# EAGLE library part 7498210220A (library 7498210220A)
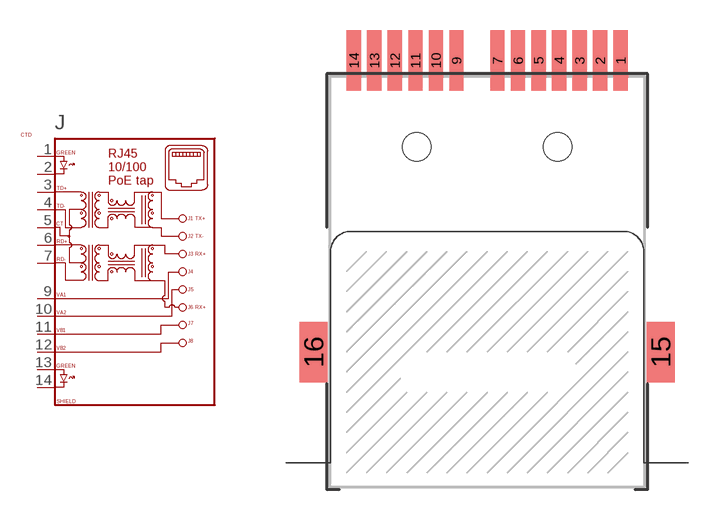
[diagram p0: symbol with the pads of SMD_7498210220A; footprint SMD_7498210220A]

Designator prefix J

## 7498210220A  [SMD_7498210220A]
1  1  pas
2  2  pas
3  3  pas
4  4  pas
5  5  pas
6  6  pas
7  7  pas
9  9  pas
10  10  pas
11  11  pas
12  12  pas
13  13  pas
14  14  pas
15  SHIELD  pas
16  SHIELD  pas

## Footprint SMD_7498210220A (pad centres in mm)
smd 0.71 x 3: 1 6.63,20; 2 5.61,20; 3 4.59,20; 4 3.57,20; 5 2.55,20; 6 1.53,20; 7 0.51,20; 9 -1.53,20; 10 -2.55,20; 11 -3.57,20; 12 -4.59,20; 13 -5.61,20; 14 -6.63,20
smd 1.4 x 3: 15 8.625,5.5; 16 -8.625,5.5
hole 1.4 at -3.5,15.7
hole 1.4 at 3.5,15.7